# Altium integrated library Diodes - TVS.IntLib: 5379 symbols (part 10 of 122)
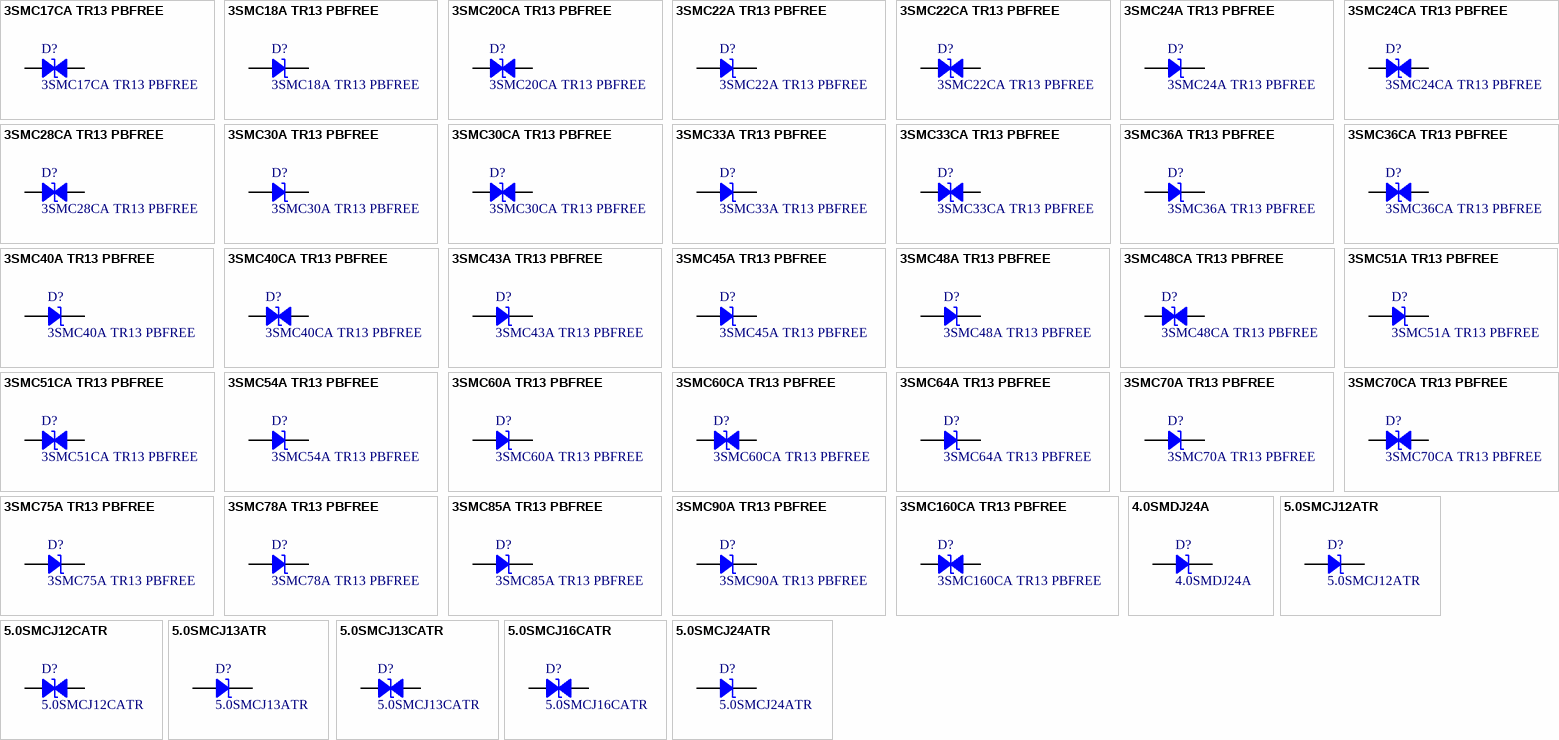
[diagram p143: symbols 3SMC17CA TR13 PBFREE to 5.0SMCJ24ATR]

## 3SMC85A TR13 PBFREE
designator D?
TVS DIODE 85V 137V SMC; Manufacturer: Central Semiconductor Corp; Current - Peak Pulse (10/1000µs): 20.8A; Power Line Protection: No; Power - Peak Pulse: 3000W (3kW); Type: Zener; Unidirectional Channels: 1; Voltage - Breakdown (Min): 94.4V; Part Number: 3SMC85A TR13 PBFREE; Applications: General Purpose; ComponentLink1Description: Datasheet; ComponentLink1URL: https://my.centralsemi.com/get_document.php?cmp=1&mergetype=pd&mergepath=pd&pdf_id=3SMC5.0A_THRU_3SMC170A_R1.PDF; ComponentLink2Description: DigiKey Link; ComponentLink2URL: http://digikey.com/product-detail/en/central-semiconductor-corp/3SMC85A-TR13-PBFREE/1514-3SMC85ATR13PBFREECT-ND/5211153; LastUpdated: 9/2/2020 1:20:05 AM; Lifecycle Status: Active; Minimum Order: 1; Mounting Type: Surface Mount; Operating Temperature: -65°C ~ 150°C (TJ); Package / Case: DO-214AB, SMC; Packaging: CutTape; PartId: 6901; Part Status: Active; Price: 3.96; Series: -; Supplier 1: DigiKey; Supplier Part Number 1: 1514-3SMC85ATR13PBFREECT-ND; Supplier Device Package: SMC; Voltage - Clamping (Max) @ Ipp: 137V; Voltage - Reverse Standoff (Typ): 85V
footprint DO214AB SMC
pins: 1, 2

## 3SMC90A TR13 PBFREE
designator D?
TVS DIODE 90V 146V SMC; Manufacturer: Central Semiconductor Corp; Current - Peak Pulse (10/1000µs): 20.6A; Power Line Protection: No; Power - Peak Pulse: 3000W (3kW); Type: Zener; Unidirectional Channels: 1; Voltage - Breakdown (Min): 100V; Part Number: 3SMC90A TR13 PBFREE; Applications: General Purpose; ComponentLink1Description: Datasheet; ComponentLink1URL: https://my.centralsemi.com/get_document.php?cmp=1&mergetype=pd&mergepath=pd&pdf_id=3SMC5.0A_THRU_3SMC170A_R1.PDF; ComponentLink2Description: DigiKey Link; ComponentLink2URL: http://digikey.com/product-detail/en/central-semiconductor-corp/3SMC90A-TR13-PBFREE/1514-3SMC90ATR13PBFREECT-ND/5211157; LastUpdated: 9/2/2020 1:20:05 AM; Lifecycle Status: Active; Minimum Order: 1; Mounting Type: Surface Mount; Operating Temperature: -65°C ~ 150°C (TJ); Package / Case: DO-214AB, SMC; Packaging: TapeAndReel; PartId: 6899; Part Status: Active; Price: 1.96; Series: -; Supplier 1: DigiKey; Supplier Part Number 1: 1514-3SMC90ATR13PBFREECT-ND; Supplier Device Package: SMC; Voltage - Clamping (Max) @ Ipp: 146V; Voltage - Reverse Standoff (Typ): 90V
footprint DO214AB SMC
pins: 1, 2

## 3SMC160CA TR13 PBFREE
designator D?
TVS DIODE 160V 259V SMC; Manufacturer: Central Semiconductor Corp; Bidirectional Channels: 1; Current - Peak Pulse (10/1000µs): 11.6A; Power Line Protection: No; Power - Peak Pulse: 3000W (3kW); Type: Zener; Voltage - Breakdown (Min): 178V; Part Number: 3SMC160CA TR13 PBFREE; Applications: General Purpose; ComponentLink1Description: Datasheet; ComponentLink1URL: https://my.centralsemi.com/get_document.php?cmp=1&mergetype=pd&mergepath=pd&pdf_id=3SMC5.0CA_THRU_3SMC170CA.PDF; ComponentLink2Description: DigiKey Link; ComponentLink2URL: http://digikey.com/product-detail/en/central-semiconductor-corp/3SMC160CA-TR13-PBFREE/1514-3SMC160CATR13PBFREECT-ND/5211092; LastUpdated: 9/2/2020 1:28:07 AM; Lifecycle Status: Active; Minimum Order: 1; Mounting Type: Surface Mount; Operating Temperature: -65°C ~ 150°C (TJ); Package / Case: DO-214AB, SMC; Packaging: TapeAndReel; PartId: 8574; Part Status: Active; Price: 1.26; Series: -; Supplier 1: DigiKey; Supplier Part Number 1: 1514-3SMC160CATR13PBFREECT-ND; Supplier Device Package: SMC; Voltage - Clamping (Max) @ Ipp: 259V; Voltage - Reverse Standoff (Typ): 160V
footprint DO214AB SMC
pins: 1, 2

## 4.0SMDJ24A
designator D?
TVS DIODE 24V 38.9V DO214AB; Manufacturer: Littelfuse Inc.; Current - Peak Pulse (10/1000µs): 103A; Power Line Protection: No; Power - Peak Pulse: 4000W (4kW); Type: Zener; Unidirectional Channels: 1; Voltage - Breakdown (Min): 26.7V; Part Number: 4.0SMDJ24A; Applications: General Purpose; ComponentLink1Description: Datasheet; ComponentLink1URL: https://www.littelfuse.com/~/media/electronics/datasheets/tvs_diodes/littelfuse_tvs_diode_4_0smdj24a_datasheet.pdf.pdf; ComponentLink2Description: DigiKey Link; ComponentLink2URL: http://digikey.com/product-detail/en/littelfuse-inc/4.0SMDJ24A/F6499CT-ND/5044066; LastUpdated: 9/2/2020 1:20:02 AM; Lifecycle Status: Active; Minimum Order: 1; Mounting Type: Surface Mount; Operating Temperature: -55°C ~ 150°C (TJ); Package / Case: DO-214AB, SMC; Packaging: TapeAndReel; PartId: 6643; Part Status: Active; Price: 0.56; Series: 4.0SMDJ; Supplier 1: DigiKey; Supplier Part Number 1: F6499CT-ND; Supplier Device Package: DO-214AB (SMCJ); Voltage - Clamping (Max) @ Ipp: 38.9V; Voltage - Reverse Standoff (Typ): 24V
footprint DO214AB SMC
pins: 1, 2

## 5.0SMCJ12ATR
designator D?
TVS DIODE 12V 19.9V SMC; Manufacturer: SMC Diode Solutions; Current - Peak Pulse (10/1000µs): 252A; Power Line Protection: No; Power - Peak Pulse: 5000W (5kW); Type: Zener; Unidirectional Channels: 1; Voltage - Breakdown (Min): 13.3V; Part Number: 5.0SMCJ12ATR; Applications: General Purpose; ComponentLink1Description: Datasheet; ComponentLink1URL: http://www.smc-diodes.com/propdf/5.0SMCJ%20SERIES%20N0240%20REV.C.pdf; ComponentLink2Description: DigiKey Link; ComponentLink2URL: http://digikey.com/product-detail/en/smc-diode-solutions/5.0SMCJ12ATR/1655-1397-1-ND/6022842; LastUpdated: 9/2/2020 1:20:04 AM; Lifecycle Status: Active; Minimum Order: 1; Mounting Type: Surface Mount; Operating Temperature: -55°C ~ 150°C (TJ); Package / Case: DO-214AB, SMC; Packaging: TapeAndReel; PartId: 6802; Part Status: Active; Price: 0.92; Series: 5.0SMCJ; Supplier 1: DigiKey; Supplier Part Number 1: 1655-1397-1-ND; Supplier Device Package: SMC (DO-214AB); Voltage - Clamping (Max) @ Ipp: 19.9V; Voltage - Reverse Standoff (Typ): 12V
footprint DO214AB SMC
pins: 1, 2

## 5.0SMCJ12CATR
designator D?
TVS DIODE 12V 19.9V SMC; Manufacturer: SMC Diode Solutions; Bidirectional Channels: 1; Current - Peak Pulse (10/1000µs): 252A; Power Line Protection: No; Power - Peak Pulse: 5000W (5kW); Type: Zener; Voltage - Breakdown (Min): 13.3V; Part Number: 5.0SMCJ12CATR; Applications: General Purpose; ComponentLink1Description: Datasheet; ComponentLink1URL: http://www.smc-diodes.com/propdf/5.0SMCJ%20SERIES%20N0240%20REV.C.pdf; ComponentLink2Description: DigiKey Link; ComponentLink2URL: http://digikey.com/product-detail/en/smc-diode-solutions/5.0SMCJ12CATR/1655-1398-1-ND/6022843; LastUpdated: 9/2/2020 1:28:06 AM; Lifecycle Status: Active; Minimum Order: 1; Mounting Type: Surface Mount; Operating Temperature: -55°C ~ 150°C (TJ); Package / Case: DO-214AB, SMC; Packaging: TapeAndReel; PartId: 8410; Part Status: Active; Price: 0.99; Series: 5.0SMCJ; Supplier 1: DigiKey; Supplier Part Number 1: 1655-1398-1-ND; Supplier Device Package: SMC (DO-214AB); Voltage - Clamping (Max) @ Ipp: 19.9V; Voltage - Reverse Standoff (Typ): 12V
footprint DO214AB SMC
pins: 1, 2

## 5.0SMCJ13ATR
designator D?
TVS DIODE 13V 21.5V SMC; Manufacturer: SMC Diode Solutions; Current - Peak Pulse (10/1000µs): 233A; Power Line Protection: No; Power - Peak Pulse: 5000W (5kW); Type: Zener; Unidirectional Channels: 1; Voltage - Breakdown (Min): 14.4V; Part Number: 5.0SMCJ13ATR; Applications: General Purpose; ComponentLink1Description: Datasheet; ComponentLink1URL: http://www.smc-diodes.com/propdf/5.0SMCJ%20SERIES%20N0240%20REV.C.pdf; ComponentLink2Description: DigiKey Link; ComponentLink2URL: http://digikey.com/product-detail/en/smc-diode-solutions/5.0SMCJ13ATR/1655-1399-1-ND/6022844; LastUpdated: 9/2/2020 1:20:04 AM; Lifecycle Status: Active; Minimum Order: 1; Mounting Type: Surface Mount; Operating Temperature: -55°C ~ 150°C (TJ); Package / Case: DO-214AB, SMC; Packaging: TapeAndReel; PartId: 6801; Part Status: Active; Price: 0.92; Series: 5.0SMCJ; Supplier 1: DigiKey; Supplier Part Number 1: 1655-1399-1-ND; Supplier Device Package: SMC (DO-214AB); Voltage - Clamping (Max) @ Ipp: 21.5V; Voltage - Reverse Standoff (Typ): 13V
footprint DO214AB SMC
pins: 1, 2

## 5.0SMCJ13CATR
designator D?
TVS DIODE 13V 21.5V SMC; Manufacturer: SMC Diode Solutions; Bidirectional Channels: 1; Current - Peak Pulse (10/1000µs): 233A; Power Line Protection: No; Power - Peak Pulse: 5000W (5kW); Type: Zener; Voltage - Breakdown (Min): 14.4V; Part Number: 5.0SMCJ13CATR; Applications: General Purpose; ComponentLink1Description: Datasheet; ComponentLink1URL: http://www.smc-diodes.com/propdf/5.0SMCJ%20SERIES%20N0240%20REV.C.pdf; ComponentLink2Description: DigiKey Link; ComponentLink2URL: http://digikey.com/product-detail/en/smc-diode-solutions/5.0SMCJ13CATR/1655-1400-1-ND/6022845; LastUpdated: 9/2/2020 1:28:06 AM; Lifecycle Status: Active; Minimum Order: 1; Mounting Type: Surface Mount; Operating Temperature: -55°C ~ 150°C (TJ); Package / Case: DO-214AB, SMC; Packaging: TapeAndReel; PartId: 8409; Part Status: Active; Price: 0.99; Series: 5.0SMCJ; Supplier 1: DigiKey; Supplier Part Number 1: 1655-1400-1-ND; Supplier Device Package: SMC (DO-214AB); Voltage - Clamping (Max) @ Ipp: 21.5V; Voltage - Reverse Standoff (Typ): 13V
footprint DO214AB SMC
pins: 1, 2

## 5.0SMCJ16CATR
designator D?
TVS DIODE 16V 26V SMC; Manufacturer: SMC Diode Solutions; Bidirectional Channels: 1; Current - Peak Pulse (10/1000µs): 193A; Power Line Protection: No; Power - Peak Pulse: 5000W (5kW); Type: Zener; Voltage - Breakdown (Min): 17.8V; Part Number: 5.0SMCJ16CATR; Applications: General Purpose; ComponentLink1Description: Datasheet; ComponentLink1URL: http://www.smc-diodes.com/propdf/5.0SMCJ%20SERIES%20N0240%20REV.C.pdf; ComponentLink2Description: DigiKey Link; ComponentLink2URL: http://digikey.com/product-detail/en/smc-diode-solutions/5.0SMCJ16CATR/1655-1401-1-ND/6022846; LastUpdated: 9/2/2020 1:28:06 AM; Lifecycle Status: Active; Minimum Order: 1; Mounting Type: Surface Mount; Operating Temperature: -55°C ~ 150°C (TJ); Package / Case: DO-214AB, SMC; Packaging: TapeAndReel; PartId: 8406; Part Status: Active; Price: 0.99; Series: 5.0SMCJ; Supplier 1: DigiKey; Supplier Part Number 1: 1655-1401-1-ND; Supplier Device Package: SMC (DO-214AB); Voltage - Clamping (Max) @ Ipp: 26V; Voltage - Reverse Standoff (Typ): 16V
footprint DO214AB SMC
pins: 1, 2

## 5.0SMCJ24ATR
designator D?
TVS DIODE 24V 38.9V SMC; Manufacturer: SMC Diode Solutions; Current - Peak Pulse (10/1000µs): 129A; Power Line Protection: No; Power - Peak Pulse: 5000W (5kW); Type: Zener; Unidirectional Channels: 1; Voltage - Breakdown (Min): 26.7V; Part Number: 5.0SMCJ24ATR; Applications: General Purpose; ComponentLink1Description: Datasheet; ComponentLink1URL: http://www.smc-diodes.com/propdf/5.0SMCJ%20SERIES%20N0240%20REV.C.pdf; ComponentLink2Description: DigiKey Link; ComponentLink2URL: http://digikey.com/product-detail/en/smc-diode-solutions/5.0SMCJ24ATR/1655-1402-1-ND/6022847; LastUpdated: 9/2/2020 1:20:04 AM; Lifecycle Status: Active; Minimum Order: 1; Mounting Type: Surface Mount; Operating Temperature: -55°C ~ 150°C (TJ); Package / Case: DO-214AB, SMC; Packaging: TapeAndReel; PartId: 6800; Part Status: Active; Price: 0.92; Series: 5.0SMCJ; Supplier 1: DigiKey; Supplier Part Number 1: 1655-1402-1-ND; Supplier Device Package: SMC (DO-214AB); Voltage - Clamping (Max) @ Ipp: 38.9V; Voltage - Reverse Standoff (Typ): 24V
footprint DO214AB SMC
pins: 1, 2

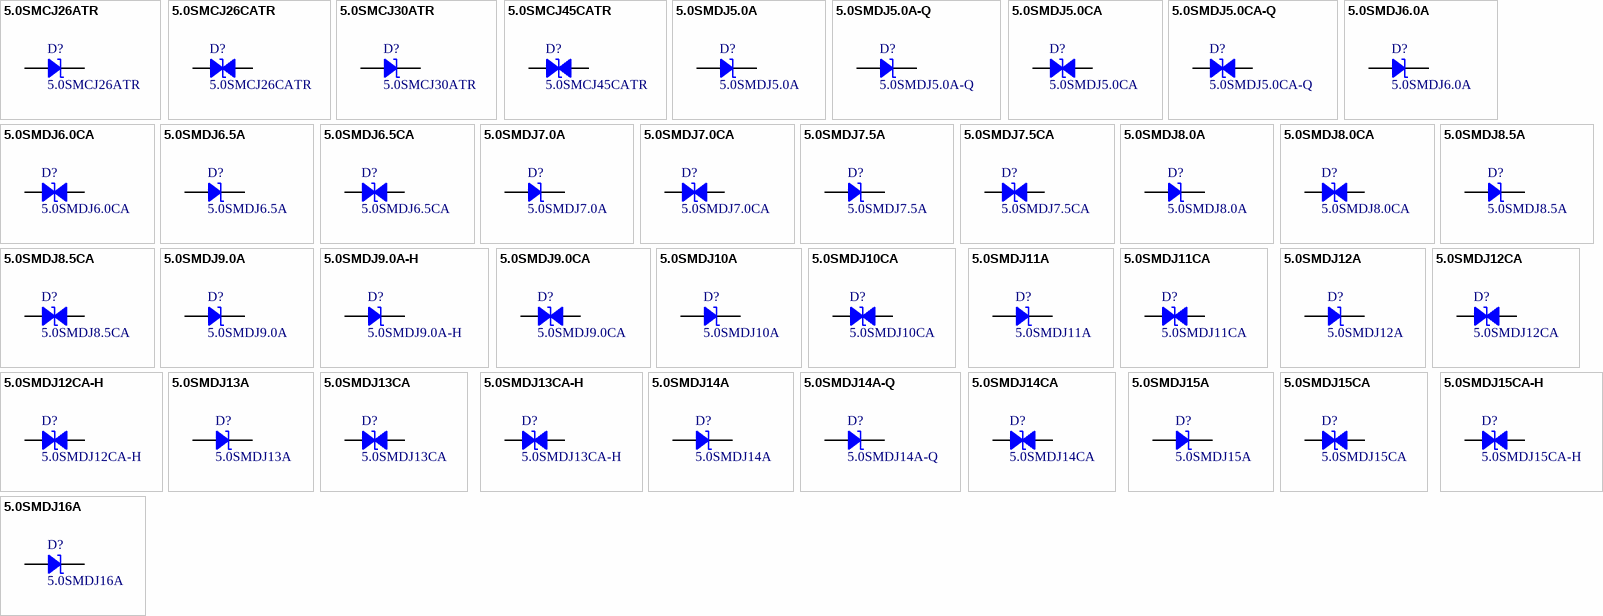
[diagram p10: symbols 5.0SMCJ26ATR to 5.0SMDJ16A]

## 5.0SMCJ26ATR
designator D?
TVS DIODE 26V 42.1V SMC; Manufacturer: SMC Diode Solutions; Current - Peak Pulse (10/1000µs): 119A; Power Line Protection: No; Power - Peak Pulse: 5000W (5kW); Type: Zener; Unidirectional Channels: 1; Voltage - Breakdown (Min): 28.9V; Part Number: 5.0SMCJ26ATR; Applications: General Purpose; ComponentLink1Description: Datasheet; ComponentLink1URL: http://www.smc-diodes.com/propdf/5.0SMCJ%20SERIES%20N0240%20REV.C.pdf; ComponentLink2Description: DigiKey Link; ComponentLink2URL: http://digikey.com/product-detail/en/smc-diode-solutions/5.0SMCJ26ATR/1655-1403-1-ND/6022848; LastUpdated: 9/2/2020 1:20:04 AM; Lifecycle Status: Active; Minimum Order: 1; Mounting Type: Surface Mount; Operating Temperature: -55°C ~ 150°C (TJ); Package / Case: DO-214AB, SMC; Packaging: TapeAndReel; PartId: 6798; Part Status: Active; Price: 0.92; Series: 5.0SMCJ; Supplier 1: DigiKey; Supplier Part Number 1: 1655-1403-1-ND; Supplier Device Package: SMC (DO-214AB); Voltage - Clamping (Max) @ Ipp: 42.1V; Voltage - Reverse Standoff (Typ): 26V
footprint DO214AB SMC
pins: 1, 2

## 5.0SMCJ26CATR
designator D?
TVS DIODE 26V 42.1V SMC; Manufacturer: SMC Diode Solutions; Bidirectional Channels: 1; Current - Peak Pulse (10/1000µs): 119A; Power Line Protection: No; Power - Peak Pulse: 5000W (5kW); Type: Zener; Voltage - Breakdown (Min): 28.9V; Part Number: 5.0SMCJ26CATR; Applications: General Purpose; ComponentLink1Description: Datasheet; ComponentLink1URL: http://www.smc-diodes.com/propdf/5.0SMCJ%20SERIES%20N0240%20REV.C.pdf; ComponentLink2Description: DigiKey Link; ComponentLink2URL: http://digikey.com/product-detail/en/smc-diode-solutions/5.0SMCJ26CATR/1655-1404-1-ND/6022849; LastUpdated: 9/2/2020 1:28:06 AM; Lifecycle Status: Active; Minimum Order: 1; Mounting Type: Surface Mount; Operating Temperature: -55°C ~ 150°C (TJ); Package / Case: DO-214AB, SMC; Packaging: TapeAndReel; PartId: 8407; Part Status: Active; Price: 0.99; Series: 5.0SMCJ; Supplier 1: DigiKey; Supplier Part Number 1: 1655-1404-1-ND; Supplier Device Package: SMC (DO-214AB); Voltage - Clamping (Max) @ Ipp: 42.1V; Voltage - Reverse Standoff (Typ): 26V
footprint DO214AB SMC
pins: 1, 2

## 5.0SMCJ30ATR
designator D?
TVS DIODE 30V 48.4V SMC; Manufacturer: SMC Diode Solutions; Current - Peak Pulse (10/1000µs): 103A; Power Line Protection: No; Power - Peak Pulse: 5000W (5kW); Type: Zener; Unidirectional Channels: 1; Voltage - Breakdown (Min): 33.3V; Part Number: 5.0SMCJ30ATR; Applications: General Purpose; ComponentLink1Description: Datasheet; ComponentLink1URL: http://www.smc-diodes.com/propdf/5.0SMCJ%20SERIES%20N0240%20REV.C.pdf; ComponentLink2Description: DigiKey Link; ComponentLink2URL: http://digikey.com/product-detail/en/smc-diode-solutions/5.0SMCJ30ATR/1655-1405-1-ND/6022850; LastUpdated: 9/2/2020 1:20:04 AM; Lifecycle Status: Active; Minimum Order: 1; Mounting Type: Surface Mount; Operating Temperature: -55°C ~ 150°C (TJ); Package / Case: DO-214AB, SMC; Packaging: TapeAndReel; PartId: 6799; Part Status: Active; Price: 0.92; Series: 5.0SMCJ; Supplier 1: DigiKey; Supplier Part Number 1: 1655-1405-1-ND; Supplier Device Package: SMC (DO-214AB); Voltage - Clamping (Max) @ Ipp: 48.4V; Voltage - Reverse Standoff (Typ): 30V
footprint DO214AB SMC
pins: 1, 2

## 5.0SMCJ45CATR
designator D?
TVS DIODE 45V 72.7V SMC; Manufacturer: SMC Diode Solutions; Bidirectional Channels: 1; Current - Peak Pulse (10/1000µs): 68.8A; Power Line Protection: No; Power - Peak Pulse: 5000W (5kW); Type: Zener; Voltage - Breakdown (Min): 50V; Part Number: 5.0SMCJ45CATR; Applications: General Purpose; ComponentLink1Description: Datasheet; ComponentLink1URL: http://www.smc-diodes.com/propdf/5.0SMCJ%20SERIES%20N0240%20REV.C.pdf; ComponentLink2Description: DigiKey Link; ComponentLink2URL: http://digikey.com/product-detail/en/smc-diode-solutions/5.0SMCJ45CATR/1655-1406-1-ND/6022851; LastUpdated: 9/2/2020 1:28:06 AM; Lifecycle Status: Active; Minimum Order: 1; Mounting Type: Surface Mount; Operating Temperature: -55°C ~ 150°C (TJ); Package / Case: DO-214AB, SMC; Packaging: TapeAndReel; PartId: 8408; Part Status: Active; Price: 0.99; Series: 5.0SMCJ; Supplier 1: DigiKey; Supplier Part Number 1: 1655-1406-1-ND; Supplier Device Package: SMC (DO-214AB); Voltage - Clamping (Max) @ Ipp: 72.7V; Voltage - Reverse Standoff (Typ): 45V
footprint DO214AB SMC
pins: 1, 2

## 5.0SMDJ5.0A
designator D?
DIO TVS VWM 5.0V 5KW UNIDIR SMC; Manufacturer: Bourns Inc.; Current - Peak Pulse (10/1000µs): 543.6A; Power Line Protection: No; Power - Peak Pulse: 5000W (5kW); Type: Zener; Unidirectional Channels: 1; Voltage - Breakdown (Min): 6.4V; Voltage - Clamping (Max) @ Ipp: 9.2V; Voltage - Reverse Standoff (Typ): 5V; Part Number: 5.0SMDJ5.0A; Applications: General Purpose; ComponentLink1Description: Datasheet; ComponentLink1URL: https://www.bourns.com/docs/product-datasheets/5-0smdj.pdf; ComponentLink2Description: DigiKey Link; ComponentLink2URL: http://digikey.com/product-detail/en/bourns-inc/5.0SMDJ5.0A/5.0SMDJ5.0ACT-ND/9341764; LastUpdated: 9/2/2020 1:20:02 AM; Lifecycle Status: Active; Minimum Order: 1; Mounting Type: Surface Mount; Operating Temperature: -55°C ~ 150°C (TJ); Package / Case: DO-214AB, SMC; Packaging: TapeAndReel; PartId: 6642; Part Status: Active; Price: 0.72; Series: 5.0SMDJ; Supplier 1: DigiKey; Supplier Part Number 1: 5.0SMDJ5.0ACT-ND; Supplier Device Package: DO-214AB (SMC)
footprint DO214AB SMC
pins: 1, 2

## 5.0SMDJ5.0A-Q
designator D?
TVS DIODE; Manufacturer: Bourns Inc.; Current - Peak Pulse (10/1000µs): 543.6A; Power Line Protection: No; Power - Peak Pulse: 5000W (5kW); Type: Zener; Unidirectional Channels: 1; Voltage - Breakdown (Min): 6.4V; Voltage - Clamping (Max) @ Ipp: 9.2V; Voltage - Reverse Standoff (Typ): 5V; Part Number: 5.0SMDJ5.0A-Q; Applications: Automotive, Telecom; ComponentLink1Description: Datasheet; ComponentLink1URL: https://www.bourns.com/docs/product-datasheets/5-0smdj-q.pdf; ComponentLink2Description: DigiKey Link; ComponentLink2URL: http://digikey.com/product-detail/en/bourns-inc/5.0SMDJ5.0A-Q/118-5.0SMDJ5.0A-QCT-ND/10447748; LastUpdated: 9/2/2020 1:20:06 AM; Lifecycle Status: Active; Minimum Order: 1; Mounting Type: Surface Mount; Operating Temperature: -55°C ~ 150°C (TJ); Package / Case: DO-214AB, SMC; Packaging: TapeAndReel; PartId: 7020; Part Status: Active; Price: 0.86; Series: Automotive, AEC-Q101, 5.0SMDJ; Supplier 1: DigiKey; Supplier Part Number 1: 118-5.0SMDJ5.0A-QCT-ND; Supplier Device Package: SMC (DO-214AB)
footprint DO214AB SMC
pins: 1, 2

## 5.0SMDJ5.0CA
designator D?
DIO TVS VWM 5.0V 5KW BIDIR SMC; Manufacturer: Bourns Inc.; Bidirectional Channels: 1; Current - Peak Pulse (10/1000µs): 543.6A; Power Line Protection: No; Power - Peak Pulse: 5000W (5kW); Type: Zener; Voltage - Breakdown (Min): 6.4V; Voltage - Clamping (Max) @ Ipp: 9.2V; Voltage - Reverse Standoff (Typ): 5V; Part Number: 5.0SMDJ5.0CA; Applications: General Purpose; ComponentLink1Description: Datasheet; ComponentLink1URL: https://www.bourns.com/docs/product-datasheets/5-0smdj.pdf; ComponentLink2Description: DigiKey Link; ComponentLink2URL: http://digikey.com/product-detail/en/bourns-inc/5.0SMDJ5.0CA/5.0SMDJ5.0CACT-ND/9341770; LastUpdated: 9/2/2020 1:28:04 AM; Lifecycle Status: Active; Minimum Order: 1; Mounting Type: Surface Mount; Operating Temperature: -55°C ~ 150°C (TJ); Package / Case: DO-214AB, SMC; Packaging: TapeAndReel; PartId: 8245; Part Status: Active; Price: 0.76; Series: 5.0SMDJ; Supplier 1: DigiKey; Supplier Part Number 1: 5.0SMDJ5.0CACT-ND; Supplier Device Package: DO-214AB (SMC)
footprint DO214AB SMC
pins: 1, 2

## 5.0SMDJ5.0CA-Q
designator D?
TVS DIODE; Manufacturer: Bourns Inc.; Bidirectional Channels: 1; Current - Peak Pulse (10/1000µs): 543.6A; Power Line Protection: No; Power - Peak Pulse: 5000W (5kW); Type: Zener; Voltage - Breakdown (Min): 6.4V; Voltage - Clamping (Max) @ Ipp: 9.2V; Voltage - Reverse Standoff (Typ): 5V; Part Number: 5.0SMDJ5.0CA-Q; Applications: Automotive, Telecom; ComponentLink1Description: Datasheet; ComponentLink1URL: https://www.bourns.com/docs/product-datasheets/5-0smdj-q.pdf; ComponentLink2Description: DigiKey Link; ComponentLink2URL: http://digikey.com/product-detail/en/bourns-inc/5.0SMDJ5.0CA-Q/118-5.0SMDJ5.0CA-QCT-ND/10447727; LastUpdated: 9/2/2020 1:28:08 AM; Lifecycle Status: Active; Minimum Order: 1; Mounting Type: Surface Mount; Operating Temperature: -55°C ~ 150°C (TJ); Package / Case: DO-214AB, SMC; Packaging: TapeAndReel; PartId: 8608; Part Status: Active; Price: 0.91; Series: Automotive, AEC-Q101, 5.0SMDJ; Supplier 1: DigiKey; Supplier Part Number 1: 118-5.0SMDJ5.0CA-QCT-ND; Supplier Device Package: SMC (DO-214AB)
footprint DO214AB SMC
pins: 1, 2

## 5.0SMDJ6.0A
designator D?
DIO TVS VWM 6.0V 5KW UNIDIR SMC; Manufacturer: Bourns Inc.; Current - Peak Pulse (10/1000µs): 485.5A; Power Line Protection: No; Power - Peak Pulse: 5000W (5kW); Type: Zener; Unidirectional Channels: 1; Voltage - Breakdown (Min): 6.67V; Voltage - Clamping (Max) @ Ipp: 10.3V; Voltage - Reverse Standoff (Typ): 6V; Part Number: 5.0SMDJ6.0A; Applications: General Purpose; ComponentLink1Description: Datasheet; ComponentLink1URL: https://www.bourns.com/docs/product-datasheets/5-0smdj.pdf; ComponentLink2Description: DigiKey Link; ComponentLink2URL: http://digikey.com/product-detail/en/bourns-inc/5.0SMDJ6.0A/5.0SMDJ6.0ACT-ND/9341794; LastUpdated: 9/2/2020 1:20:02 AM; Lifecycle Status: Active; Minimum Order: 1; Mounting Type: Surface Mount; Operating Temperature: -55°C ~ 150°C (TJ); Package / Case: DO-214AB, SMC; Packaging: TapeAndReel; PartId: 6602; Part Status: Active; Price: 0.72; Series: 5.0SMDJ; Supplier 1: DigiKey; Supplier Part Number 1: 5.0SMDJ6.0ACT-ND; Supplier Device Package: DO-214AB (SMC)
footprint DO214AB SMC
pins: 1, 2

## 5.0SMDJ6.0CA
designator D?
DIO TVS VWM 6.0V 5KW BIDIR SMC; Manufacturer: Bourns Inc.; Bidirectional Channels: 1; Current - Peak Pulse (10/1000µs): 485.5A; Power Line Protection: No; Power - Peak Pulse: 5000W (5kW); Type: Zener; Voltage - Breakdown (Min): 6.67V; Voltage - Clamping (Max) @ Ipp: 10.3V; Voltage - Reverse Standoff (Typ): 6V; Part Number: 5.0SMDJ6.0CA; Applications: General Purpose; ComponentLink1Description: Datasheet; ComponentLink1URL: https://www.bourns.com/docs/product-datasheets/5-0smdj.pdf; ComponentLink2Description: DigiKey Link; ComponentLink2URL: http://digikey.com/product-detail/en/bourns-inc/5.0SMDJ6.0CA/5.0SMDJ6.0CACT-ND/9341800; LastUpdated: 9/2/2020 1:28:04 AM; Lifecycle Status: Active; Minimum Order: 1; Mounting Type: Surface Mount; Operating Temperature: -55°C ~ 150°C (TJ); Package / Case: DO-214AB, SMC; Packaging: TapeAndReel; PartId: 8190; Part Status: Active; Price: 0.76; Series: 5.0SMDJ; Supplier 1: DigiKey; Supplier Part Number 1: 5.0SMDJ6.0CACT-ND; Supplier Device Package: DO-214AB (SMC)
footprint DO214AB SMC
pins: 1, 2

## 5.0SMDJ6.5A
designator D?
DIO TVS VWM 6.5V 5KW UNIDIR SMC; Manufacturer: Bourns Inc.; Current - Peak Pulse (10/1000µs): 446.5A; Power Line Protection: No; Power - Peak Pulse: 5000W (5kW); Type: Zener; Unidirectional Channels: 1; Voltage - Breakdown (Min): 7.22V; Voltage - Clamping (Max) @ Ipp: 11.2V; Part Number: 5.0SMDJ6.5A; Applications: General Purpose; ComponentLink1Description: Datasheet; ComponentLink1URL: https://www.bourns.com/docs/product-datasheets/5-0smdj.pdf; ComponentLink2Description: DigiKey Link; ComponentLink2URL: http://digikey.com/product-detail/en/bourns-inc/5.0SMDJ6.5A/5.0SMDJ6.5ACT-ND/9341806; LastUpdated: 9/2/2020 1:20:02 AM; Lifecycle Status: Active; Minimum Order: 1; Mounting Type: Surface Mount; Operating Temperature: -55°C ~ 150°C (TJ); Package / Case: DO-214AB, SMC; Packaging: TapeAndReel; PartId: 6601; Part Status: Active; Price: 0.72; Series: 5.0SMDJ; Supplier 1: DigiKey; Supplier Part Number 1: 5.0SMDJ6.5ACT-ND; Supplier Device Package: DO-214AB (SMC); Voltage - Reverse Standoff (Typ): 6.5V
footprint DO214AB SMC
pins: 1, 2

## 5.0SMDJ6.5CA
designator D?
DIO TVS VWM 6.5V 5KW BIDIR SMC; Manufacturer: Bourns Inc.; Bidirectional Channels: 1; Current - Peak Pulse (10/1000µs): 446.5A; Power Line Protection: No; Power - Peak Pulse: 5000W (5kW); Type: Zener; Voltage - Breakdown (Min): 7.22V; Voltage - Clamping (Max) @ Ipp: 11.2V; Part Number: 5.0SMDJ6.5CA; Applications: General Purpose; ComponentLink1Description: Datasheet; ComponentLink1URL: https://www.bourns.com/docs/product-datasheets/5-0smdj.pdf; ComponentLink2Description: DigiKey Link; ComponentLink2URL: http://digikey.com/product-detail/en/bourns-inc/5.0SMDJ6.5CA/5.0SMDJ6.5CACT-ND/9341812; LastUpdated: 9/2/2020 1:28:04 AM; Lifecycle Status: Active; Minimum Order: 1; Mounting Type: Surface Mount; Operating Temperature: -55°C ~ 150°C (TJ); Package / Case: DO-214AB, SMC; Packaging: TapeAndReel; PartId: 8189; Part Status: Active; Price: 0.76; Series: 5.0SMDJ; Supplier 1: DigiKey; Supplier Part Number 1: 5.0SMDJ6.5CACT-ND; Supplier Device Package: DO-214AB (SMC); Voltage - Reverse Standoff (Typ): 6.5V
footprint DO214AB SMC
pins: 1, 2

## 5.0SMDJ7.0A
designator D?
DIO TVS VWM 7.0V 5KW UNIDIR SMC; Manufacturer: Bourns Inc.; Current - Peak Pulse (10/1000µs): 416.8A; Power Line Protection: No; Power - Peak Pulse: 5000W (5kW); Type: Zener; Unidirectional Channels: 1; Voltage - Breakdown (Min): 7.78V; Voltage - Clamping (Max) @ Ipp: 12V; Voltage - Reverse Standoff (Typ): 7V; Part Number: 5.0SMDJ7.0A; Applications: General Purpose; ComponentLink1Description: Datasheet; ComponentLink1URL: https://www.bourns.com/docs/product-datasheets/5-0smdj.pdf; ComponentLink2Description: DigiKey Link; ComponentLink2URL: http://digikey.com/product-detail/en/bourns-inc/5.0SMDJ7.0A/5.0SMDJ7.0ACT-ND/9341830; LastUpdated: 9/2/2020 1:20:02 AM; Lifecycle Status: Active; Minimum Order: 1; Mounting Type: Surface Mount; Operating Temperature: -55°C ~ 150°C (TJ); Package / Case: DO-214AB, SMC; Packaging: TapeAndReel; PartId: 6600; Part Status: Active; Price: 0.72; Series: 5.0SMDJ; Supplier 1: DigiKey; Supplier Part Number 1: 5.0SMDJ7.0ACT-ND; Supplier Device Package: DO-214AB (SMC)
footprint DO214AB SMC
pins: 1, 2

## 5.0SMDJ7.0CA
designator D?
DIO TVS VWM 7.0V 5KW BIDIR SMC; Manufacturer: Bourns Inc.; Bidirectional Channels: 1; Current - Peak Pulse (10/1000µs): 416.8A; Power Line Protection: No; Power - Peak Pulse: 5000W (5kW); Type: Zener; Voltage - Breakdown (Min): 7.78V; Voltage - Clamping (Max) @ Ipp: 12V; Voltage - Reverse Standoff (Typ): 7V; Part Number: 5.0SMDJ7.0CA; Applications: General Purpose; ComponentLink1Description: Datasheet; ComponentLink1URL: https://www.bourns.com/docs/product-datasheets/5-0smdj.pdf; ComponentLink2Description: DigiKey Link; ComponentLink2URL: http://digikey.com/product-detail/en/bourns-inc/5.0SMDJ7.0CA/5.0SMDJ7.0CACT-ND/9341836; LastUpdated: 9/2/2020 1:28:07 AM; Lifecycle Status: Active; Minimum Order: 1; Mounting Type: Surface Mount; Operating Temperature: -55°C ~ 150°C (TJ); Package / Case: DO-214AB, SMC; Packaging: TapeAndReel; PartId: 8519; Part Status: Active; Price: 0.76; Series: 5.0SMDJ; Supplier 1: DigiKey; Supplier Part Number 1: 5.0SMDJ7.0CACT-ND; Supplier Device Package: DO-214AB (SMC)
footprint DO214AB SMC
pins: 1, 2

## 5.0SMDJ7.5A
designator D?
DIO TVS VWM 7.5V 5KW UNIDIR SMC; Manufacturer: Bourns Inc.; Current - Peak Pulse (10/1000µs): 387.7A; Power Line Protection: No; Power - Peak Pulse: 5000W (5kW); Type: Zener; Unidirectional Channels: 1; Voltage - Breakdown (Min): 8.33V; Voltage - Clamping (Max) @ Ipp: 12.9V; Part Number: 5.0SMDJ7.5A; Applications: General Purpose; ComponentLink1Description: Datasheet; ComponentLink1URL: https://www.bourns.com/docs/product-datasheets/5-0smdj.pdf; ComponentLink2Description: DigiKey Link; ComponentLink2URL: http://digikey.com/product-detail/en/bourns-inc/5.0SMDJ7.5A/5.0SMDJ7.5ACT-ND/9341842; LastUpdated: 9/2/2020 1:20:02 AM; Lifecycle Status: Active; Minimum Order: 1; Mounting Type: Surface Mount; Operating Temperature: -55°C ~ 150°C (TJ); Package / Case: DO-214AB, SMC; Packaging: TapeAndReel; PartId: 6599; Part Status: Active; Price: 0.72; Series: 5.0SMDJ; Supplier 1: DigiKey; Supplier Part Number 1: 5.0SMDJ7.5ACT-ND; Supplier Device Package: DO-214AB (SMC); Voltage - Reverse Standoff (Typ): 7.5V
footprint DO214AB SMC
pins: 1, 2

## 5.0SMDJ7.5CA
designator D?
DIO TVS VWM 7.5V 5KW BIDIR SMC; Manufacturer: Bourns Inc.; Bidirectional Channels: 1; Current - Peak Pulse (10/1000µs): 387.7A; Power Line Protection: No; Power - Peak Pulse: 5000W (5kW); Type: Zener; Voltage - Breakdown (Min): 8.33V; Voltage - Clamping (Max) @ Ipp: 12.9V; Part Number: 5.0SMDJ7.5CA; Applications: General Purpose; ComponentLink1Description: Datasheet; ComponentLink1URL: https://www.bourns.com/docs/product-datasheets/5-0smdj.pdf; ComponentLink2Description: DigiKey Link; ComponentLink2URL: http://digikey.com/product-detail/en/bourns-inc/5.0SMDJ7.5CA/5.0SMDJ7.5CACT-ND/9341848; LastUpdated: 9/2/2020 1:28:04 AM; Lifecycle Status: Active; Minimum Order: 1; Mounting Type: Surface Mount; Operating Temperature: -55°C ~ 150°C (TJ); Package / Case: DO-214AB, SMC; Packaging: TapeAndReel; PartId: 8194; Part Status: Active; Price: 0.76; Series: 5.0SMDJ; Supplier 1: DigiKey; Supplier Part Number 1: 5.0SMDJ7.5CACT-ND; Supplier Device Package: DO-214AB (SMC); Voltage - Reverse Standoff (Typ): 7.5V
footprint DO214AB SMC
pins: 1, 2

## 5.0SMDJ8.0A
designator D?
DIO TVS VWM 8.0V 5KW UNIDIR SMC; Manufacturer: Bourns Inc.; Current - Peak Pulse (10/1000µs): 367.7A; Power Line Protection: No; Power - Peak Pulse: 5000W (5kW); Type: Zener; Unidirectional Channels: 1; Voltage - Breakdown (Min): 8.89V; Voltage - Clamping (Max) @ Ipp: 13.6V; Voltage - Reverse Standoff (Typ): 8V; Part Number: 5.0SMDJ8.0A; Applications: General Purpose; ComponentLink1Description: Datasheet; ComponentLink1URL: https://www.bourns.com/docs/product-datasheets/5-0smdj.pdf; ComponentLink2Description: DigiKey Link; ComponentLink2URL: http://digikey.com/product-detail/en/bourns-inc/5.0SMDJ8.0A/5.0SMDJ8.0ACT-ND/9341872; LastUpdated: 9/2/2020 1:20:02 AM; Lifecycle Status: Active; Minimum Order: 1; Mounting Type: Surface Mount; Operating Temperature: -55°C ~ 150°C (TJ); Package / Case: DO-214AB, SMC; Packaging: TapeAndReel; PartId: 6598; Part Status: Active; Price: 0.72; Series: 5.0SMDJ; Supplier 1: DigiKey; Supplier Part Number 1: 5.0SMDJ8.0ACT-ND; Supplier Device Package: DO-214AB (SMC)
footprint DO214AB SMC
pins: 1, 2

## 5.0SMDJ8.0CA
designator D?
DIO TVS VWM 8.0V 5KW BIDIR SMC; Manufacturer: Bourns Inc.; Bidirectional Channels: 1; Current - Peak Pulse (10/1000µs): 367.7A; Power Line Protection: No; Power - Peak Pulse: 5000W (5kW); Type: Zener; Voltage - Breakdown (Min): 8.89V; Voltage - Clamping (Max) @ Ipp: 13.6V; Voltage - Reverse Standoff (Typ): 8V; Part Number: 5.0SMDJ8.0CA; Applications: General Purpose; ComponentLink1Description: Datasheet; ComponentLink1URL: https://www.bourns.com/docs/product-datasheets/5-0smdj.pdf; ComponentLink2Description: DigiKey Link; ComponentLink2URL: http://digikey.com/product-detail/en/bourns-inc/5.0SMDJ8.0CA/5.0SMDJ8.0CADKR-ND/9341879; LastUpdated: 9/2/2020 1:28:05 AM; Lifecycle Status: Active; Minimum Order: 1; Mounting Type: Surface Mount; Operating Temperature: -55°C ~ 150°C (TJ); Package / Case: DO-214AB, SMC; Packaging: TapeAndReel; PartId: 8371; Part Status: Active; Price: 0.76; Series: 5.0SMDJ; Supplier 1: DigiKey; Supplier Part Number 1: 5.0SMDJ8.0CADKR-ND; Supplier Device Package: DO-214AB (SMC)
footprint DO214AB SMC
pins: 1, 2

## 5.0SMDJ8.5A
designator D?
DIO TVS VWM 8.5V 5KW UNIDIR SMC; Manufacturer: Bourns Inc.; Current - Peak Pulse (10/1000µs): 347.3A; Power Line Protection: No; Power - Peak Pulse: 5000W (5kW); Type: Zener; Unidirectional Channels: 1; Voltage - Breakdown (Min): 9.44V; Voltage - Clamping (Max) @ Ipp: 14.4V; Part Number: 5.0SMDJ8.5A; Applications: General Purpose; ComponentLink1Description: Datasheet; ComponentLink1URL: https://www.bourns.com/docs/product-datasheets/5-0smdj.pdf; ComponentLink2Description: DigiKey Link; ComponentLink2URL: http://digikey.com/product-detail/en/bourns-inc/5.0SMDJ8.5A/5.0SMDJ8.5ACT-ND/9341884; LastUpdated: 9/2/2020 1:20:02 AM; Lifecycle Status: Active; Minimum Order: 1; Mounting Type: Surface Mount; Operating Temperature: -55°C ~ 150°C (TJ); Package / Case: DO-214AB, SMC; Packaging: TapeAndReel; PartId: 6605; Part Status: Active; Price: 0.72; Series: 5.0SMDJ; Supplier 1: DigiKey; Supplier Part Number 1: 5.0SMDJ8.5ACT-ND; Supplier Device Package: DO-214AB (SMC); Voltage - Reverse Standoff (Typ): 8.5V
footprint DO214AB SMC
pins: 1, 2

## 5.0SMDJ8.5CA
designator D?
DIO TVS VWM 8.5V 5KW BIDIR SMC; Manufacturer: Bourns Inc.; Bidirectional Channels: 1; Current - Peak Pulse (10/1000µs): 347.3A; Power Line Protection: No; Power - Peak Pulse: 5000W (5kW); Type: Zener; Voltage - Breakdown (Min): 9.44V; Voltage - Clamping (Max) @ Ipp: 14.4V; Part Number: 5.0SMDJ8.5CA; Applications: General Purpose; ComponentLink1Description: Datasheet; ComponentLink1URL: https://www.bourns.com/docs/product-datasheets/5-0smdj.pdf; ComponentLink2Description: DigiKey Link; ComponentLink2URL: http://digikey.com/product-detail/en/bourns-inc/5.0SMDJ8.5CA/5.0SMDJ8.5CACT-ND/9341890; LastUpdated: 9/2/2020 1:28:07 AM; Lifecycle Status: Active; Minimum Order: 1; Mounting Type: Surface Mount; Operating Temperature: -55°C ~ 150°C (TJ); Package / Case: DO-214AB, SMC; Packaging: TapeAndReel; PartId: 8517; Part Status: Active; Price: 0.76; Series: 5.0SMDJ; Supplier 1: DigiKey; Supplier Part Number 1: 5.0SMDJ8.5CACT-ND; Supplier Device Package: DO-214AB (SMC); Voltage - Reverse Standoff (Typ): 8.5V
footprint DO214AB SMC
pins: 1, 2

## 5.0SMDJ9.0A
designator D?
DIO TVS VWM 9.0V 5KW UNIDIR SMC; Manufacturer: Bourns Inc.; Current - Peak Pulse (10/1000µs): 324.8A; Power Line Protection: No; Power - Peak Pulse: 5000W (5kW); Type: Zener; Unidirectional Channels: 1; Voltage - Breakdown (Min): 10V; Voltage - Clamping (Max) @ Ipp: 15.4V; Voltage - Reverse Standoff (Typ): 9V; Part Number: 5.0SMDJ9.0A; Applications: General Purpose; ComponentLink1Description: Datasheet; ComponentLink1URL: https://www.bourns.com/docs/product-datasheets/5-0smdj.pdf; ComponentLink2Description: DigiKey Link; ComponentLink2URL: http://digikey.com/product-detail/en/bourns-inc/5.0SMDJ9.0A/5.0SMDJ9.0ACT-ND/9341902; LastUpdated: 9/2/2020 1:20:02 AM; Lifecycle Status: Active; Minimum Order: 1; Mounting Type: Surface Mount; Operating Temperature: -55°C ~ 150°C (TJ); Package / Case: DO-214AB, SMC; Packaging: TapeAndReel; PartId: 6597; Part Status: Active; Price: 0.72; Series: 5.0SMDJ; Supplier 1: DigiKey; Supplier Part Number 1: 5.0SMDJ9.0ACT-ND; Supplier Device Package: DO-214AB (SMC)
footprint DO214AB SMC
pins: 1, 2

## 5.0SMDJ9.0A-H
designator D?
DIO TVS VWM 9.0V 5KW UNIDIR SMC; Manufacturer: Bourns Inc.; Current - Peak Pulse (10/1000µs): 324.8A; Power Line Protection: No; Power - Peak Pulse: 5000W (5kW); Type: Zener; Unidirectional Channels: 1; Voltage - Breakdown (Min): 10V; Voltage - Clamping (Max) @ Ipp: 15.4V; Voltage - Reverse Standoff (Typ): 9V; Part Number: 5.0SMDJ9.0A-H; Applications: General Purpose; ComponentLink1Description: Datasheet; ComponentLink1URL: https://www.bourns.com/docs/product-datasheets/5-0smdj.pdf; ComponentLink2Description: DigiKey Link; ComponentLink2URL: http://digikey.com/product-detail/en/bourns-inc/5.0SMDJ9.0A-H/5.0SMDJ9.0A-HCT-ND/9341905; LastUpdated: 9/2/2020 1:20:03 AM; Lifecycle Status: Active; Minimum Order: 1; Mounting Type: Surface Mount; Operating Temperature: -55°C ~ 150°C (TJ); Package / Case: DO-214AB, SMC; Packaging: TapeAndReel; PartId: 6745; Part Status: Active; Price: 1.29; Series: 5.0SMDJ; Supplier 1: DigiKey; Supplier Part Number 1: 5.0SMDJ9.0A-HCT-ND; Supplier Device Package: DO-214AB (SMC)
footprint DO214AB SMC
pins: 1, 2

## 5.0SMDJ9.0CA
designator D?
DIO TVS VWM 9.0V 5KW BIDIR SMC; Manufacturer: Bourns Inc.; Bidirectional Channels: 1; Current - Peak Pulse (10/1000µs): 324.8A; Power Line Protection: No; Power - Peak Pulse: 5000W (5kW); Type: Zener; Voltage - Breakdown (Min): 10V; Voltage - Clamping (Max) @ Ipp: 15.4V; Voltage - Reverse Standoff (Typ): 9V; Part Number: 5.0SMDJ9.0CA; Applications: General Purpose; ComponentLink1Description: Datasheet; ComponentLink1URL: https://www.bourns.com/docs/product-datasheets/5-0smdj.pdf; ComponentLink2Description: DigiKey Link; ComponentLink2URL: http://digikey.com/product-detail/en/bourns-inc/5.0SMDJ9.0CA/5.0SMDJ9.0CACT-ND/9341908; LastUpdated: 9/2/2020 1:28:05 AM; Lifecycle Status: Active; Minimum Order: 1; Mounting Type: Surface Mount; Operating Temperature: -55°C ~ 150°C (TJ); Package / Case: DO-214AB, SMC; Packaging: TapeAndReel; PartId: 8369; Part Status: Active; Price: 0.76; Series: 5.0SMDJ; Supplier 1: DigiKey; Supplier Part Number 1: 5.0SMDJ9.0CACT-ND; Supplier Device Package: DO-214AB (SMC)
footprint DO214AB SMC
pins: 1, 2

## 5.0SMDJ10A
designator D?
DIO TVS VWM 10V 5KW UNIDIR SMC; Manufacturer: Bourns Inc.; Current - Peak Pulse (10/1000µs): 294.2A; Power Line Protection: No; Power - Peak Pulse: 5000W (5kW); Type: Zener; Unidirectional Channels: 1; Voltage - Breakdown (Min): 11.1V; Voltage - Clamping (Max) @ Ipp: 17V; Part Number: 5.0SMDJ10A; Applications: General Purpose; ComponentLink1Description: Datasheet; ComponentLink1URL: https://www.bourns.com/docs/product-datasheets/5-0smdj.pdf; ComponentLink2Description: DigiKey Link; ComponentLink2URL: http://digikey.com/product-detail/en/bourns-inc/5.0SMDJ10A/5.0SMDJ10ACT-ND/9341740; LastUpdated: 9/2/2020 1:20:02 AM; Lifecycle Status: Active; Minimum Order: 1; Mounting Type: Surface Mount; Operating Temperature: -55°C ~ 150°C (TJ); Package / Case: DO-214AB, SMC; Packaging: TapeAndReel; PartId: 6604; Part Status: Active; Price: 0.72; Series: 5.0SMDJ; Supplier 1: DigiKey; Supplier Part Number 1: 5.0SMDJ10ACT-ND; Supplier Device Package: DO-214AB (SMC); Voltage - Reverse Standoff (Typ): 10V
footprint DO214AB SMC
pins: 1, 2

## 5.0SMDJ10CA
designator D?
DIO TVS VWM 10V 5KW BIDIR SMC; Manufacturer: Bourns Inc.; Bidirectional Channels: 1; Current - Peak Pulse (10/1000µs): 294.2A; Power Line Protection: No; Power - Peak Pulse: 5000W (5kW); Type: Zener; Voltage - Breakdown (Min): 11.1V; Voltage - Clamping (Max) @ Ipp: 17V; Part Number: 5.0SMDJ10CA; Applications: General Purpose; ComponentLink1Description: Datasheet; ComponentLink1URL: https://www.bourns.com/docs/product-datasheets/5-0smdj.pdf; ComponentLink2Description: DigiKey Link; ComponentLink2URL: http://digikey.com/product-detail/en/bourns-inc/5.0SMDJ10CA/5.0SMDJ10CACT-ND/9341746; LastUpdated: 9/2/2020 1:28:04 AM; Lifecycle Status: Active; Minimum Order: 1; Mounting Type: Surface Mount; Operating Temperature: -55°C ~ 150°C (TJ); Package / Case: DO-214AB, SMC; Packaging: TapeAndReel; PartId: 8193; Part Status: Active; Price: 0.76; Series: 5.0SMDJ; Supplier 1: DigiKey; Supplier Part Number 1: 5.0SMDJ10CACT-ND; Supplier Device Package: DO-214AB (SMC); Voltage - Reverse Standoff (Typ): 10V
footprint DO214AB SMC
pins: 1, 2

## 5.0SMDJ11A
designator D?
DIO TVS VWM 11V 5KW UNIDIR SMC; Manufacturer: Bourns Inc.; Current - Peak Pulse (10/1000µs): 274.8A; Power Line Protection: No; Power - Peak Pulse: 5000W (5kW); Type: Zener; Unidirectional Channels: 1; Voltage - Breakdown (Min): 12.2V; Voltage - Clamping (Max) @ Ipp: 18.2V; Part Number: 5.0SMDJ11A; Applications: General Purpose; ComponentLink1Description: Datasheet; ComponentLink1URL: https://www.bourns.com/docs/product-datasheets/5-0smdj.pdf; ComponentLink2Description: DigiKey Link; ComponentLink2URL: http://digikey.com/product-detail/en/bourns-inc/5.0SMDJ11A/5.0SMDJ11ACT-ND/9341752; LastUpdated: 9/2/2020 1:20:02 AM; Lifecycle Status: Active; Minimum Order: 1; Mounting Type: Surface Mount; Operating Temperature: -55°C ~ 150°C (TJ); Package / Case: DO-214AB, SMC; Packaging: TapeAndReel; PartId: 6603; Part Status: Active; Price: 0.72; Series: 5.0SMDJ; Supplier 1: DigiKey; Supplier Part Number 1: 5.0SMDJ11ACT-ND; Supplier Device Package: DO-214AB (SMC); Voltage - Reverse Standoff (Typ): 11V
footprint DO214AB SMC
pins: 1, 2

## 5.0SMDJ11CA
designator D?
DIO TVS VWM 11V 5KW BIDIR SMC; Manufacturer: Bourns Inc.; Bidirectional Channels: 1; Current - Peak Pulse (10/1000µs): 274.8A; Power Line Protection: No; Power - Peak Pulse: 5000W (5kW); Type: Zener; Voltage - Breakdown (Min): 12.2V; Voltage - Clamping (Max) @ Ipp: 18.2V; Part Number: 5.0SMDJ11CA; Applications: General Purpose; ComponentLink1Description: Datasheet; ComponentLink1URL: https://www.bourns.com/docs/product-datasheets/5-0smdj.pdf; ComponentLink2Description: DigiKey Link; ComponentLink2URL: http://digikey.com/product-detail/en/bourns-inc/5.0SMDJ11CA/5.0SMDJ11CACT-ND/9341758; LastUpdated: 9/2/2020 1:28:04 AM; Lifecycle Status: Active; Minimum Order: 1; Mounting Type: Surface Mount; Operating Temperature: -55°C ~ 150°C (TJ); Package / Case: DO-214AB, SMC; Packaging: TapeAndReel; PartId: 8192; Part Status: Active; Price: 0.76; Series: 5.0SMDJ; Supplier 1: DigiKey; Supplier Part Number 1: 5.0SMDJ11CACT-ND; Supplier Device Package: DO-214AB (SMC); Voltage - Reverse Standoff (Typ): 11V
footprint DO214AB SMC
pins: 1, 2

## 5.0SMDJ12A
designator D?
TVS DIODE 12V 19.9V DO214AB; Manufacturer: Bourns Inc.; Current - Peak Pulse (10/1000µs): 252A; Power Line Protection: No; Power - Peak Pulse: 5000W (5kW); Type: Zener; Unidirectional Channels: 1; Voltage - Breakdown (Min): 13.3V; Part Number: 5.0SMDJ12A; Applications: General Purpose; ComponentLink1Description: Datasheet; ComponentLink1URL: https://www.bourns.com/docs/product-datasheets/5-0smdj.pdf; ComponentLink2Description: DigiKey Link; ComponentLink2URL: http://digikey.com/product-detail/en/bourns-inc/5.0SMDJ12A/5.0SMDJ12ABBCT-ND/7796638; LastUpdated: 9/2/2020 1:20:00 AM; Lifecycle Status: Active; Minimum Order: 1; Mounting Type: Surface Mount; Operating Temperature: -55°C ~ 150°C (TJ); Package / Case: DO-214AB, SMC; Packaging: TapeAndReel; PartId: 6454; Part Status: Active; Price: 0.72; Series: 5.0SMDJ; Supplier 1: DigiKey; Supplier Part Number 1: 5.0SMDJ12ABBCT-ND; Supplier Device Package: DO-214AB (SMC); Voltage - Clamping (Max) @ Ipp: 19.9V; Voltage - Reverse Standoff (Typ): 12V
footprint DO214AB SMC
pins: 1, 2

## 5.0SMDJ12CA
designator D?
TVS DIODE 12V 19.9V DO214AB; Manufacturer: Littelfuse Inc.; Bidirectional Channels: 1; Current - Peak Pulse (10/1000µs): 252A; Power Line Protection: No; Power - Peak Pulse: 5000W (5kW); Type: Zener; Voltage - Breakdown (Min): 13.3V; Part Number: 5.0SMDJ12CA; Applications: General Purpose; ComponentLink1Description: Datasheet; ComponentLink1URL: https://www.littelfuse.com/products/tvs-diodes/surface-mount/~/media/electronics/datasheets/tvs_diodes/littelfuse_tvs_diode_5_0smdj_datasheet.pdf.pdf; ComponentLink2Description: DigiKey Link; ComponentLink2URL: http://digikey.com/product-detail/en/littelfuse-inc/5.0SMDJ12CA/5.0SMDJ12CACT-ND/2699833; LastUpdated: 9/2/2020 1:28:03 AM; Lifecycle Status: Active; Minimum Order: 1; Mounting Type: Surface Mount; Operating Temperature: -65°C ~ 150°C (TJ); Package / Case: DO-214AB, SMC; Packaging: TapeAndReel; PartId: 8146; Part Status: Active; Price: 0.86; Series: 5.0SMDJ; Supplier 1: DigiKey; Supplier Part Number 1: 5.0SMDJ12CACT-ND; Supplier Device Package: DO-214AB (SMCJ); Voltage - Clamping (Max) @ Ipp: 19.9V; Voltage - Reverse Standoff (Typ): 12V
footprint DO214AB SMC
pins: 1, 2

## 5.0SMDJ12CA-H
designator D?
TVS DIODE 12V 19.9V DO214AB; Manufacturer: Bourns Inc.; Bidirectional Channels: 1; Current - Peak Pulse (10/1000µs): 252A; Power Line Protection: No; Power - Peak Pulse: 5000W (5kW); Type: Zener; Voltage - Breakdown (Min): 13.3V; Part Number: 5.0SMDJ12CA-H; Applications: General Purpose; ComponentLink1Description: Datasheet; ComponentLink1URL: https://www.bourns.com/docs/product-datasheets/5-0smdj.pdf; ComponentLink2Description: DigiKey Link; ComponentLink2URL: http://digikey.com/product-detail/en/bourns-inc/5.0SMDJ12CA-H/5.0SMDJ12CA-HCT-ND/7670054; LastUpdated: 9/2/2020 1:28:07 AM; Lifecycle Status: Active; Minimum Order: 1; Mounting Type: Surface Mount; Operating Temperature: -55°C ~ 150°C (TJ); Package / Case: DO-214AB, SMC; Packaging: TapeAndReel; PartId: 8510; Part Status: Active; Price: 0.91; Series: 5.0SMDJ; Supplier 1: DigiKey; Supplier Part Number 1: 5.0SMDJ12CA-HCT-ND; Supplier Device Package: DO-214AB (SMC); Voltage - Clamping (Max) @ Ipp: 19.9V; Voltage - Reverse Standoff (Typ): 12V
footprint DO214AB SMC
pins: 1, 2

## 5.0SMDJ13A
designator D?
TVS DIODE 13V 21.5V DO214AB; Manufacturer: Bourns Inc.; Current - Peak Pulse (10/1000µs): 233A; Power Line Protection: No; Power - Peak Pulse: 5000W (5kW); Type: Zener; Unidirectional Channels: 1; Voltage - Breakdown (Min): 14.4V; Part Number: 5.0SMDJ13A; Applications: General Purpose; ComponentLink1Description: Datasheet; ComponentLink1URL: https://www.bourns.com/docs/product-datasheets/5-0smdj.pdf; ComponentLink2Description: DigiKey Link; ComponentLink2URL: http://digikey.com/product-detail/en/bourns-inc/5.0SMDJ13A/118-5.0SMDJ13ACT-ND/10447718; LastUpdated: 9/2/2020 1:20:06 AM; Lifecycle Status: Active; Minimum Order: 1; Mounting Type: Surface Mount; Operating Temperature: -55°C ~ 150°C (TJ); Package / Case: DO-214AB, SMC; Packaging: Unknown; PartId: 7034; Part Status: Active; Price: 0.72; Series: 5.0SMDJ; Supplier 1: DigiKey; Supplier Part Number 1: 118-5.0SMDJ13ACT-ND; Supplier Device Package: DO-214AB (SMC); Voltage - Clamping (Max) @ Ipp: 21.5V; Voltage - Reverse Standoff (Typ): 13V
footprint DO214AB SMC
pins: 1, 2

## 5.0SMDJ13CA
designator D?
TVS DIODE 13V 21.5V DO214AB; Manufacturer: Littelfuse Inc.; Bidirectional Channels: 1; Current - Peak Pulse (10/1000µs): 233A; Power Line Protection: No; Power - Peak Pulse: 5000W (5kW); Type: Zener; Voltage - Breakdown (Min): 14.4V; Part Number: 5.0SMDJ13CA; Applications: General Purpose; ComponentLink1Description: Datasheet; ComponentLink1URL: https://www.littelfuse.com/products/tvs-diodes/surface-mount/~/media/electronics/datasheets/tvs_diodes/littelfuse_tvs_diode_5_0smdj_datasheet.pdf.pdf; ComponentLink2Description: DigiKey Link; ComponentLink2URL: http://digikey.com/product-detail/en/littelfuse-inc/5.0SMDJ13CA/5.0SMDJ13CACT-ND/2699836; LastUpdated: 9/2/2020 1:28:01 AM; Lifecycle Status: Active; Minimum Order: 1; Mounting Type: Surface Mount; Operating Temperature: -65°C ~ 150°C (TJ); Package / Case: DO-214AB, SMC; Packaging: TapeAndReel; PartId: 7879; Part Status: Active; Price: 0.86; Series: 5.0SMDJ; Supplier 1: DigiKey; Supplier Part Number 1: 5.0SMDJ13CACT-ND; Supplier Device Package: DO-214AB (SMCJ); Voltage - Clamping (Max) @ Ipp: 21.5V; Voltage - Reverse Standoff (Typ): 13V
footprint DO214AB SMC
pins: 1, 2

## 5.0SMDJ13CA-H
designator D?
TVS DIODE 13V 21.5V DO214AB; Manufacturer: Bourns Inc.; Bidirectional Channels: 1; Current - Peak Pulse (10/1000µs): 233A; Power Line Protection: No; Power - Peak Pulse: 5000W (5kW); Type: Zener; Voltage - Breakdown (Min): 14.4V; Part Number: 5.0SMDJ13CA-H; Applications: General Purpose; ComponentLink1Description: Datasheet; ComponentLink1URL: https://www.bourns.com/docs/product-datasheets/5-0smdj.pdf; ComponentLink2Description: DigiKey Link; ComponentLink2URL: http://digikey.com/product-detail/en/bourns-inc/5.0SMDJ13CA-H/5.0SMDJ13CA-HCT-ND/7670055; LastUpdated: 9/2/2020 1:28:01 AM; Lifecycle Status: Active; Minimum Order: 1; Mounting Type: Surface Mount; Operating Temperature: -55°C ~ 150°C (TJ); Package / Case: DO-214AB, SMC; Packaging: TapeAndReel; PartId: 7889; Part Status: Active; Price: 0.91; Series: 5.0SMDJ; Supplier 1: DigiKey; Supplier Part Number 1: 5.0SMDJ13CA-HCT-ND; Supplier Device Package: DO-214AB (SMC); Voltage - Clamping (Max) @ Ipp: 21.5V; Voltage - Reverse Standoff (Typ): 13V
footprint DO214AB SMC
pins: 1, 2

## 5.0SMDJ14A
designator D?
TVS DIODE 14V 23.2V DO214AB; Manufacturer: Bourns Inc.; Current - Peak Pulse (10/1000µs): 216A; Power Line Protection: No; Power - Peak Pulse: 5000W (5kW); Type: Zener; Unidirectional Channels: 1; Voltage - Breakdown (Min): 15.6V; Part Number: 5.0SMDJ14A; Applications: General Purpose; ComponentLink1Description: Datasheet; ComponentLink1URL: https://www.bourns.com/docs/product-datasheets/5-0smdj.pdf; ComponentLink2Description: DigiKey Link; ComponentLink2URL: http://digikey.com/product-detail/en/bourns-inc/5.0SMDJ14A/5.0SMDJ14ABBCT-ND/7796640; LastUpdated: 9/2/2020 1:20:02 AM; Lifecycle Status: Active; Minimum Order: 1; Mounting Type: Surface Mount; Operating Temperature: -55°C ~ 150°C (TJ); Package / Case: DO-214AB, SMC; Packaging: TapeAndReel; PartId: 6641; Part Status: Active; Price: 0.72; Series: 5.0SMDJ; Supplier 1: DigiKey; Supplier Part Number 1: 5.0SMDJ14ABBCT-ND; Supplier Device Package: DO-214AB (SMC); Voltage - Clamping (Max) @ Ipp: 23.2V; Voltage - Reverse Standoff (Typ): 14V
footprint DO214AB SMC
pins: 1, 2

## 5.0SMDJ14A-Q
designator D?
DIO TVS VWM 14V 5KW UNIDIR SMC A; Manufacturer: Bourns Inc.; Current - Peak Pulse (10/1000µs): 216A; Power Line Protection: No; Power - Peak Pulse: 5000W (5kW); Type: Zener; Unidirectional Channels: 1; Voltage - Breakdown (Min): 15.6V; Voltage - Clamping (Max) @ Ipp: 23.2V; Part Number: 5.0SMDJ14A-Q; Applications: Automotive; ComponentLink1Description: Datasheet; ComponentLink1URL: https://www.bourns.com/docs/product-datasheets/5-0smdj-q.pdf?sfvrsn=a6c72f6_2; ComponentLink2Description: DigiKey Link; ComponentLink2URL: http://digikey.com/product-detail/en/bourns-inc/5.0SMDJ14A-Q/5.0SMDJ14A-QCT-ND/10222667; LastUpdated: 9/2/2020 1:20:03 AM; Lifecycle Status: Active; Minimum Order: 1; Mounting Type: Surface Mount; Operating Temperature: -55°C ~ 150°C (TJ); Package / Case: DO-214AB, SMC; Packaging: TapeAndReel; PartId: 6748; Part Status: Active; Price: 0.86; Series: Automotive, AEC-Q101, 5.0SMDJ; Supplier 1: DigiKey; Supplier Part Number 1: 5.0SMDJ14A-QCT-ND; Supplier Device Package: SMC (DO-214AB); Voltage - Reverse Standoff (Typ): 14V
footprint DO214AB SMC
pins: 1, 2